# EAGLE library part LPC81X (library seb)
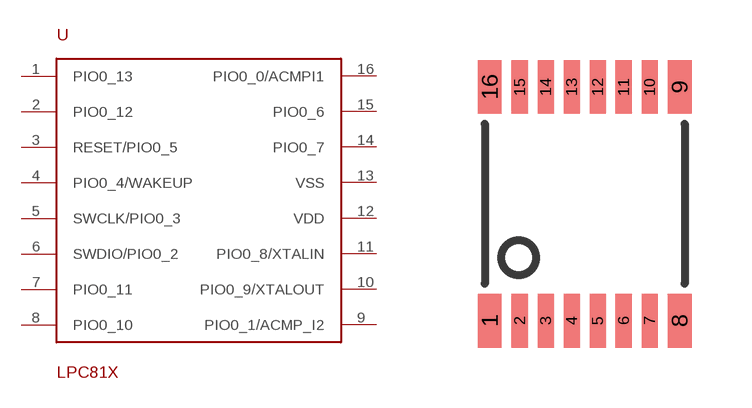
[diagram p21: symbol with the pads of TSSOP16; footprint TSSOP16]

Designator prefix -

## LPC81X  [TSSOP16]
1  PIO0_13
2  PIO0_12
3  RESET/PIO0_5
4  PIO0_4/WAKEUP
5  SWCLK/PIO0_3
6  SWDIO/PIO0_2
7  PIO0_11
8  PIO0_10
9  PIO0_1/ACMP_I2
10  PIO0_9/XTALOUT
11  PIO0_8/XTALIN
12  VDD
13  VSS
14  PIO0_7
15  PIO0_6
16  PIO0_0/ACMPI1

## Footprint TSSOP16 (pad centres in mm)
smd 0.6 x 1.35: 1 -2.375,-2.925; 8 2.375,-2.925; 9 2.375,2.925; 16 -2.375,2.925
smd 0.4 x 1.35: 2 -1.625,-2.925; 3 -0.975,-2.925; 4 -0.325,-2.925; 5 0.325,-2.925; 6 0.975,-2.925; 7 1.625,-2.925; 10 1.625,2.925; 11 0.975,2.925; 12 0.325,2.925; 13 -0.325,2.925; 14 -0.975,2.925; 15 -1.625,2.925